# Altium schematic symbol library CRCW04023M32FKED.SchLib: 1 symbol
Pins are listed as number, name and electrical type; pins without a type are passive.

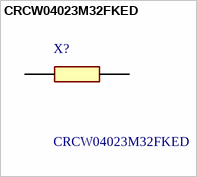
[diagram p0: symbol CRCW04023M32FKED]

## CRCW04023M32FKED
designator X?
Thick Film Resistors - SMD 1/16watt 3.32Mohms 1% 100ppm; Manufacturer_Name: Vishay; Geometry.Height: 0.4mm; Mouser Part Number: 71-CRCW04023M32FKED; Mouser Price/Stock: https://www.mouser.co.uk/ProductDetail/Vishay-Dale/CRCW04023M32FKED?qs=%2FGvPWUwWV9aHz5BaQ3sktg%3D%3D; Manufacturer_Part_Number: CRCW04023M32FKED; Datasheet Link: http://www.vishay.com/docs/20035/dcrcwe3.pdf
footprint RESC1005X40N
pins: 1, 2